# EAGLE library part DS1620+ (library mru-led)
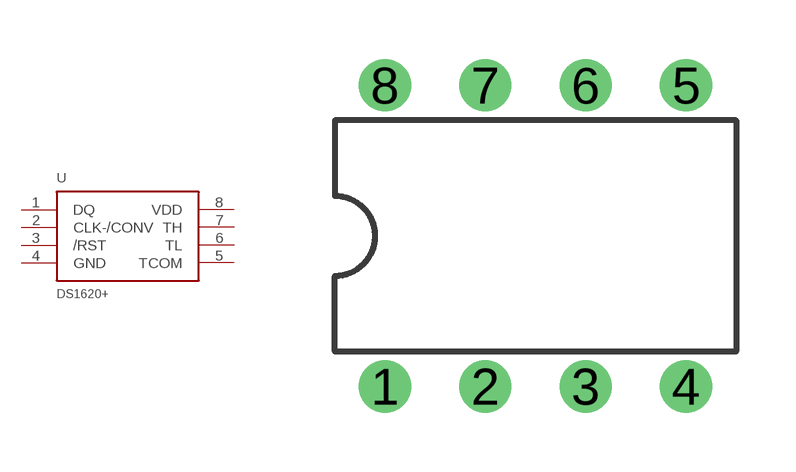
[diagram p4: symbol with the pads of DIL08; footprint DIL08]

Designator prefix -

## DS1620+  [DIL08]
1  DQ
2  CLK-/CONV
3  /RST
4  GND  pwr
5  TCOM  out
6  TL  out
7  TH  out
8  VDD  pwr

## Footprint DIL08 (pad centres in mm)
Dual In Line Package
drill 0.813 pad 1.27 round: 1 -3.81,-3.81; 2 -1.27,-3.81; 3 1.27,-3.81; 4 3.81,-3.81; 5 3.81,3.81; 6 1.27,3.81; 7 -1.27,3.81; 8 -3.81,3.81